# Altium schematic symbol library Borna electronic.SchLib: 28 symbols
Pins are listed as number, name and electrical type; pins without a type are passive.

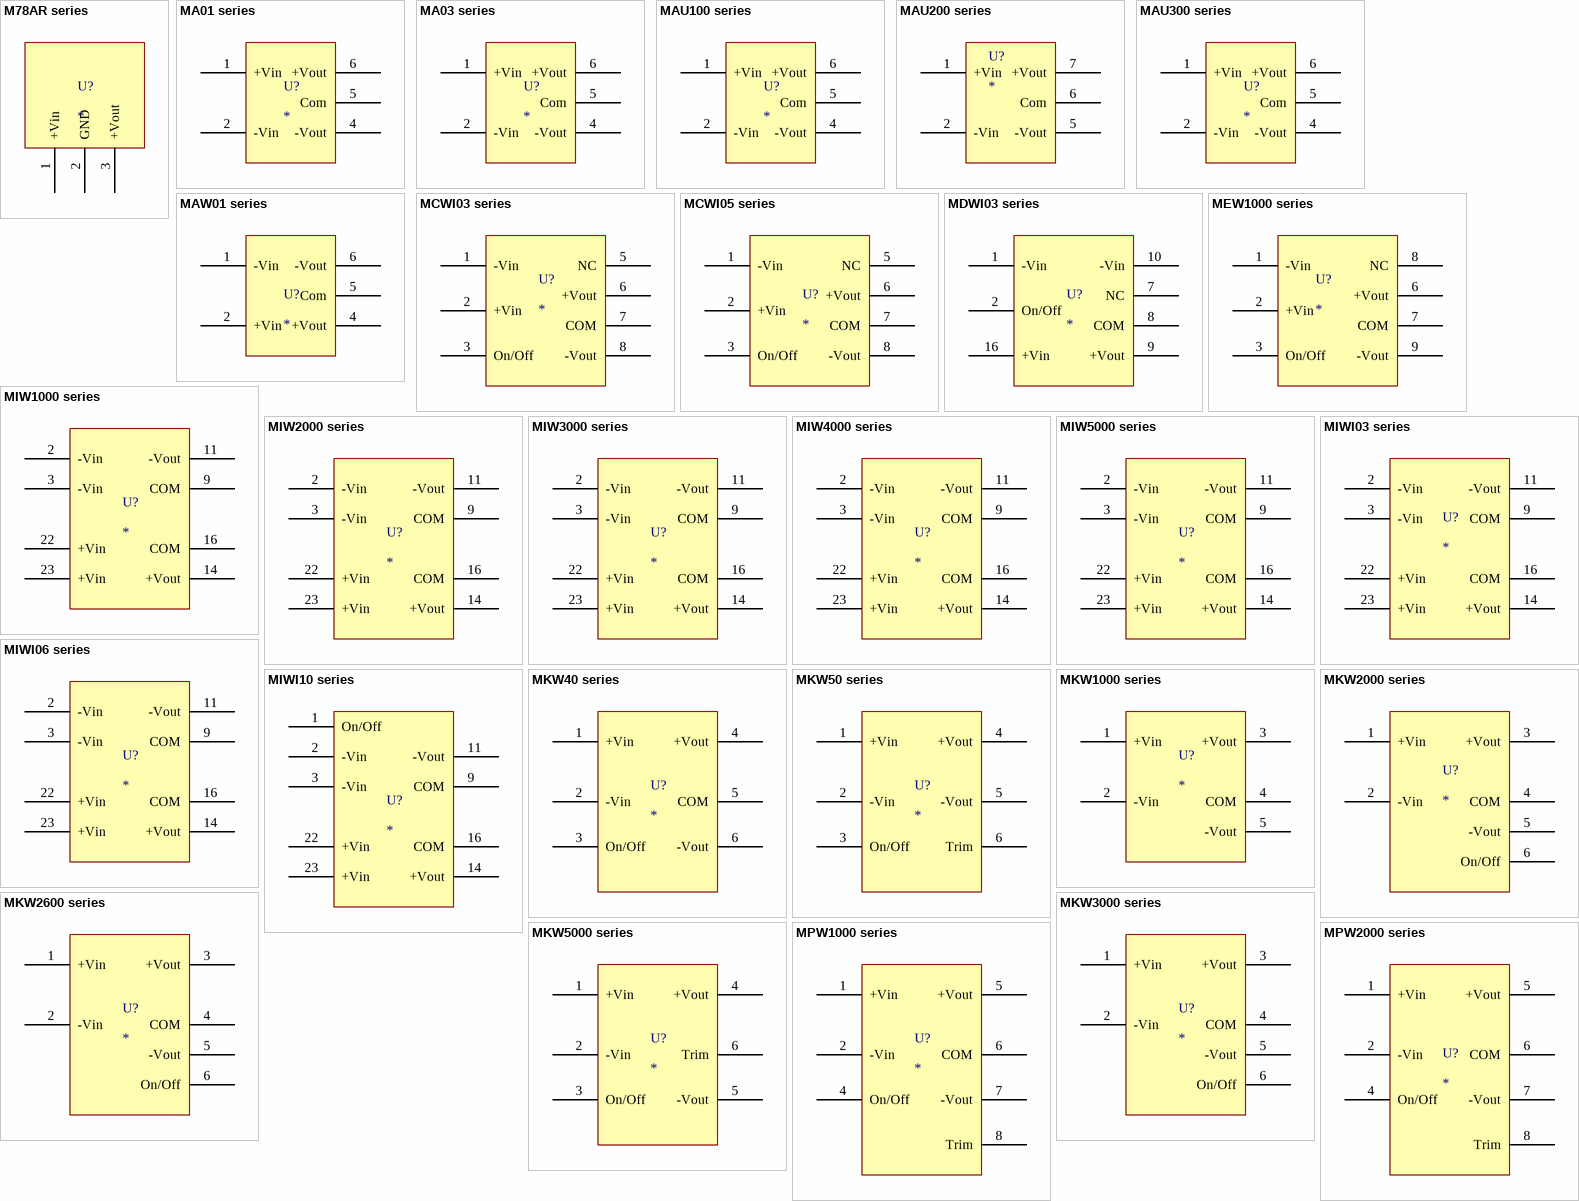
[diagram p0: symbols M78AR series to MPW2000 series]

## M78AR series
designator U?
footprint M78AR-0.5 (M78AR-)
pins: 1 +Vin, 2 GND, 3 +Vout

## MA01 series
designator U?
footprint MA01
pins: 1 +Vin, 2 -Vin, 4 -Vout, 5 Com, 6 +Vout

## MA03 series
designator U?
footprint MA03
pins: 1 +Vin, 2 -Vin, 4 -Vout, 5 Com, 6 +Vout

## MAU100 series
designator U?
footprint MAU100
pins: 1 +Vin, 2 -Vin, 4 -Vout, 5 Com, 6 +Vout

## MAU200 series
designator U?
footprint MAU200
pins: 1 +Vin, 2 -Vin, 5 -Vout, 6 Com, 7 +Vout

## MAU300 series
designator U?
footprint MAU300
pins: 1 +Vin, 2 -Vin, 4 -Vout, 5 Com, 6 +Vout

## MAW01 series
designator U?
footprint MAW01
pins: 1 -Vin, 2 +Vin, 4 +Vout, 5 Com, 6 -Vout

## MCWI03 series
designator U?
footprint MCWI03
pins: 1 -Vin, 2 +Vin, 3 On/Off, 5 NC, 6 +Vout, 7 COM, 8 -Vout

## MCWI05 series
designator U?
footprint MCWI05
pins: 1 -Vin, 2 +Vin, 3 On/Off, 5 NC, 6 +Vout, 7 COM, 8 -Vout

## MDWI03 series
designator U?
footprint MDWI03
pins: 1 -Vin, 2 On/Off, 7 NC, 8 COM, 9 +Vout, 10 -Vin, 16 +Vin

## MEW1000 series
designator U?
footprint MEW1000
pins: 1 -Vin, 2 +Vin, 3 On/Off, 6 +Vout, 7 COM, 8 NC, 9 -Vout

## MIW1000 series
designator U?
footprint MIW1000
pins: 2 -Vin, 3 -Vin, 9 COM, 11 -Vout, 14 +Vout, 16 COM, 22 +Vin, 23 +Vin

## MIW2000 series
designator U?
footprint MIW2000
pins: 2 -Vin, 3 -Vin, 9 COM, 11 -Vout, 14 +Vout, 16 COM, 22 +Vin, 23 +Vin

## MIW3000 series
designator U?
footprint MIW3000
pins: 2 -Vin, 3 -Vin, 9 COM, 11 -Vout, 14 +Vout, 16 COM, 22 +Vin, 23 +Vin

## MIW4000 series
designator U?
footprint MIW4000
pins: 2 -Vin, 3 -Vin, 9 COM, 11 -Vout, 14 +Vout, 16 COM, 22 +Vin, 23 +Vin

## MIW5000 series
designator U?
footprint MIW5000
pins: 2 -Vin, 3 -Vin, 9 COM, 11 -Vout, 14 +Vout, 16 COM, 22 +Vin, 23 +Vin

## MIWI03 series
designator U?
footprint MIWI03
pins: 2 -Vin, 3 -Vin, 9 COM, 11 -Vout, 14 +Vout, 16 COM, 22 +Vin, 23 +Vin

## MIWI06 series
designator U?
footprint MIWI06
pins: 2 -Vin, 3 -Vin, 9 COM, 11 -Vout, 14 +Vout, 16 COM, 22 +Vin, 23 +Vin

## MIWI10 series
designator U?
footprint MIWI10
pins: 1 On/Off, 2 -Vin, 3 -Vin, 9 COM, 11 -Vout, 14 +Vout, 16 COM, 22 +Vin, 23 +Vin

## MKW40 series
designator U?
footprint MKW40
pins: 1 +Vin, 2 -Vin, 3 On/Off, 4 +Vout, 5 COM, 6 -Vout

## MKW50 series
designator U?
footprint MKW50
pins: 1 +Vin, 2 -Vin, 3 On/Off, 4 +Vout, 5 -Vout, 6 Trim

## MKW1000 series
designator U?
footprint MKW1000
pins: 1 +Vin, 2 -Vin, 3 +Vout, 4 COM, 5 -Vout

## MKW2000 series
designator U?
footprint MKW2000
pins: 1 +Vin, 2 -Vin, 3 +Vout, 4 COM, 5 -Vout, 6 On/Off

## MKW2600 series
designator U?
footprint MKW2600
pins: 1 +Vin, 2 -Vin, 3 +Vout, 4 COM, 5 -Vout, 6 On/Off

## MKW3000 series
designator U?
footprint MKW3000
pins: 1 +Vin, 2 -Vin, 3 +Vout, 4 COM, 5 -Vout, 6 On/Off

## MKW5000 series
designator U?
footprint MKW5000
pins: 1 +Vin, 2 -Vin, 3 On/Off, 4 +Vout, 5 -Vout, 6 Trim

## MPW1000 series
designator U?
footprint MPW1000
pins: 1 +Vin, 2 -Vin, 4 On/Off, 5 +Vout, 6 COM, 7 -Vout, 8 Trim

## MPW2000 series
designator U?
footprint MPW2000
pins: 1 +Vin, 2 -Vin, 4 On/Off, 5 +Vout, 6 COM, 7 -Vout, 8 Trim